# Altium schematic symbol library Supply Lines.SchLib: 23 symbols (part 1 of 2)
Pins are listed as number, name and electrical type; pins without a type are passive.

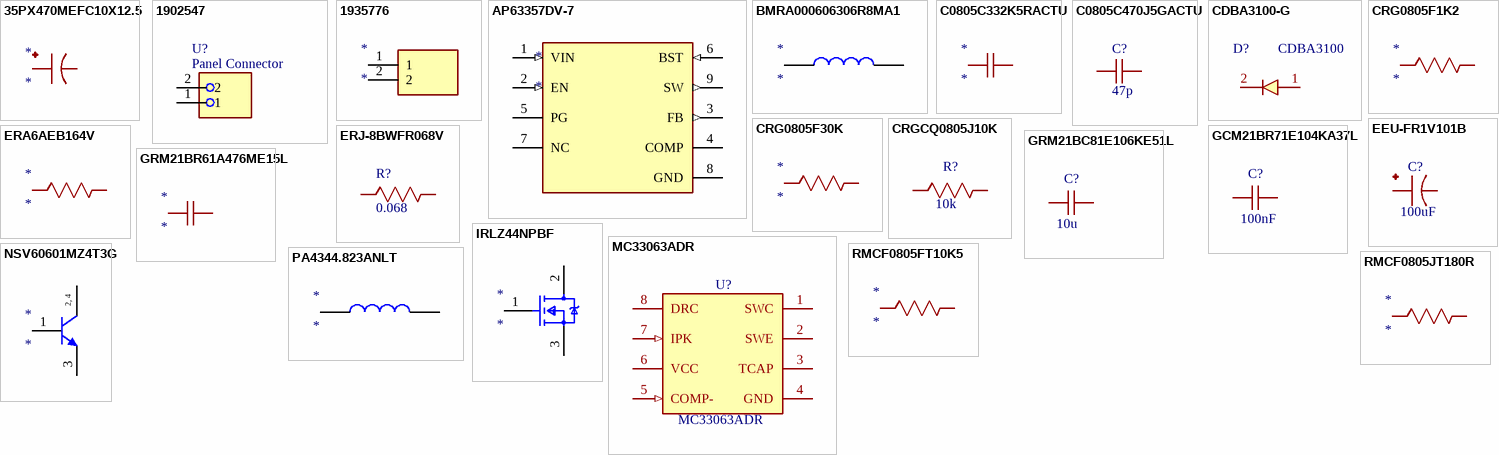
[diagram p0: symbols 35PX470MEFC10X12.5 to RMCF0805JT180R]

## 35PX470MEFC10X12.5
designator *
Aluminum Electrolytic Capacitor, Polarized, Aluminum (wet), 35V, 20% +Tol, 20% -Tol, 470uF; Manufacturer: Rubycon; Manufacturer Part Number: 35PX470MEFC10X12.5; Value: 470µF; Life (Hours): 2000hours; Polarity: Polar; Ripple Current: 525mA; Supplier: Mouser; Supplier Part Number: 232-35PX470MEFC10X12; RoHS: Compliant; Category: Aluminum Electrolytic Capacitors; Stock: 10207; Pricing: 1=0.46, 10=0.25, 50=0.25, 100=0.232, 1000=0.183, 10000=0.183 (USD); Case/Package: Radial; Diameter: 10mm; Height: 12.5mm; Height - Seated (Max): 13.9954mm; Lead Pitch: 5mm; Length: 12.5mm; Lifecycle Status: Production; Max Operating Temperature: 105°C; Min Operating Temperature: -55°C; Mounting Technology: Through Hole; Pins: 2; Number of Terminals: 2; Packaging: Bulk; REACH SVHC: Yes; Ripple Current (AC): 525mA; Schedule B: 8532220020, 8532220020|8532220020|8532220020|8532220020|8532220020; Terminal Pitch: 5mm; Tolerance: 20%; Voltage Rating: 35V; Voltage Rating (DC): 35V; ComponentLink1URL: https://datasheet.octopart.com:443/35PX470MEFC10X12.5-Rubycon-datasheet-159569471.pdf?src-supplier=IHS; ComponentLink1Description: https://datasheet.octopart.com:443/35PX470MEFC10X12.5-Rubycon-datasheet-159569471.pdf?src-supplier=IHS; ComponentLink2URL: https://datasheet.octopart.com:443/35PX470MEFC10X12.5-Rubycon-datasheet-86451557.pdf?src-supplier=Master+Electronics; ComponentLink2Description: https://datasheet.octopart.com:443/35PX470MEFC10X12.5-Rubycon-datasheet-86451557.pdf?src-supplier=Master+Electronics; ComponentLink3URL: https://datasheet.octopart.com:443/35PX470MEFC10X12.5-Rubycon-datasheet-41169268.pdf?src-supplier=Newark; ComponentLink3Description: https://datasheet.octopart.com:443/35PX470MEFC10X12.5-Rubycon-datasheet-41169268.pdf?src-supplier=Newark; ComponentLink4URL: https://datasheet.octopart.com:443/35PX470MEFC10X12.5-Rubycon-datasheet-12529491.pdf?src-supplier=element14+APAC; ComponentLink4Description: https://datasheet.octopart.com:443/35PX470MEFC10X12.5-Rubycon-datasheet-12529491.pdf?src-supplier=element14+APAC
footprint CAP_PKPZ_10X12P5_LOW_RUB
pins: 1, 2

## 1902547
designator U?, comment Panel Connector
Conn PC Terminal Block 2 POS 9.52mm Solder ST Thru-Hole 32A Cardboard; Manufacturer: Phoenix Contact; Manufacturer Part Number: 1902547; Approvals: CSA, UL; Current: 30A; Gender: Male; Number of Circuits: 2; Number of Levels: 1; Voltage: 600V; Voltage Rating: 800V; Wire/Cable Gauge: 10AWG; Wire Gauge (Max): 30AWG; Supplier: DigiKey; Supplier Part Number: 277-5951-ND; RoHS: Compliant; Category: Terminal Blocks; Stock: 2575; Pricing: 1=2.05, 10=1.543, 25=1.2168 (USD); China RoHS: Compliant; Color: Green; Contact Material: Tin; Current Rating: 32A; Depth: 21.5mm; Flammability Rating: UL94 V-0; Height: 21.5mm; Housing Color: Green; Housing Material: Polyamide; Lead Free: Lead Free; Length: 19.04mm; Lifecycle Status: Production; Material: Polyamide; Max Current Rating: 32A; Mounting Technology: Screw; Number of Contacts: 2; Pins: 2; Number of Poles: 2; Number of Positions: 2; Number of Positions Per Level: 2; Number of Rows: 1; Orientation: Straight; Pitch: 9.52mm; REACH SVHC: Yes; Termination: Screw; Weight: 6.719999g; Width: 16mm; Wire Gauge (Min): 10AWG; ComponentLink1URL: https://datasheet.octopart.com:443/1902547-Phoenix-Contact-datasheet-86450925.pdf?src-supplier=Farnell; ComponentLink1Description: https://datasheet.octopart.com:443/1902547-Phoenix-Contact-datasheet-86450925.pdf?src-supplier=Farnell; ComponentLink2URL: https://datasheet.octopart.com:443/MKDS-5-HV--2-9%2C52-Phoenix-Contact-datasheet-58098511.pdf?src-supplier=element14+APAC; ComponentLink2Description: https://datasheet.octopart.com:443/MKDS-5-HV--2-9%2C52-Phoenix-Contact-datasheet-58098511.pdf?src-supplier=element14+APAC; ComponentLink3URL: https://datasheet.octopart.com:443/1902547-Phoenix-Contact-datasheet-154783129.pdf?src-supplier=Electro+Sonic; ComponentLink3Description: https://datasheet.octopart.com:443/1902547-Phoenix-Contact-datasheet-154783129.pdf?src-supplier=Electro+Sonic; ComponentLink4URL: https://datasheet.octopart.com:443/1902547-Phoenix-Contact-datasheet-177362804.pdf?src-supplier=Burklin+Elektronik; ComponentLink4Description: https://datasheet.octopart.com:443/1902547-Phoenix-Contact-datasheet-177362804.pdf?src-supplier=Burklin+Elektronik; ComponentLink5URL: https://datasheet.octopart.com:443/1902547-Phoenix-Contact-datasheet-13545994.pdf?src-supplier=RS+(Formerly+Allied+Electronics); ComponentLink5Description: https://datasheet.octopart.com:443/1902547-Phoenix-Contact-datasheet-13545994.pdf?src-supplier=RS+(Formerly+Allied+Electronics); ComponentLink6URL: https://datasheet.octopart.com:443/1902547-Phoenix-Contact-datasheet-62122993.pdf?src-supplier=RS+(Formerly+Allied+Electronics); ComponentLink6Description: https://datasheet.octopart.com:443/1902547-Phoenix-Contact-datasheet-62122993.pdf?src-supplier=RS+(Formerly+Allied+Electronics); ComponentLink7URL: https://datasheet.octopart.com:443/1902547-Phoenix-Contact-datasheet-33514357.pdf?src-supplier=MRO+Stop; ComponentLink7Description: https://datasheet.octopart.com:443/1902547-Phoenix-Contact-datasheet-33514357.pdf?src-supplier=MRO+Stop; ComponentLink8URL: https://datasheet.octopart.com:443/1902547-Phoenix-Contact-datasheet-11802246.pdf?src-supplier=Arrow+Electronics; ComponentLink8Description: https://datasheet.octopart.com:443/1902547-Phoenix-Contact-datasheet-11802246.pdf?src-supplier=Arrow+Electronics
footprint PHOENIX_1902547
pins: 1, 2

## 1935776
designator *
Conn Terminal Block 2 POS 5mm Solder ST Thru-Hole 32ACardboard; Manufacturer: Phoenix Contact; Manufacturer Part Number: 1935776; Approvals: UL; Current: 20A; Current Rating: 32A; Max Supply Voltage: 250V; Number of Circuits: 2; Number of Levels: 1; Voltage: 300V; Wire/Cable Gauge: 10AWG; Wire Gauge (Max): 20AWG; Wire Gauge (Min): 12AWG; Supplier: Mouser; Supplier Part Number: 651-1935776; RoHS: Compliant; Category: Terminal Blocks; Stock: 3159; Pricing: 1=0.81, 10=0.593, 50=0.479, 100=0.47, 1000=0.47, 10000=0.47 (USD); China RoHS: Non-Compliant; Color: Green; Contact Material: Tin; Depth: 9mm; Height: 13.5mm; Housing Color: Green; Housing Material: Polyamide; Lead Free: Lead Free; Length: 9mm; Lifecycle Status: Production; Material: Nylon; Max Current Rating: 32A; Mounting Technology: Screw; Number of Contacts: 2; Pins: 2; Number of Poles: 2; Number of Positions: 2; Number of Positions Per Level: 2; Number of Rows: 1; Orientation: Straight; Packaging: Bulk; Pitch: 5mm; Radiation Hardening: No; REACH SVHC: No; Termination: Solder; Voltage Rating: 250V; Weight: 2.42g; Width: 17.6mm; ComponentLink1URL: https://datasheet.octopart.com:443/1935776-Phoenix-Contact-datasheet-154783799.pdf?src-supplier=Electro+Sonic; ComponentLink1Description: https://datasheet.octopart.com:443/1935776-Phoenix-Contact-datasheet-154783799.pdf?src-supplier=Electro+Sonic; ComponentLink2URL: https://datasheet.octopart.com:443/1935776-Phoenix-Contact-datasheet-33522892.pdf?src-supplier=MRO+Stop; ComponentLink2Description: https://datasheet.octopart.com:443/1935776-Phoenix-Contact-datasheet-33522892.pdf?src-supplier=MRO+Stop; ComponentLink3URL: https://datasheet.octopart.com:443/1935776-Phoenix-Contact-datasheet-140322698.pdf?src-supplier=Farnell; ComponentLink3Description: https://datasheet.octopart.com:443/1935776-Phoenix-Contact-datasheet-140322698.pdf?src-supplier=Farnell; ComponentLink4URL: https://datasheet.octopart.com:443/1935776-Phoenix-Contact-datasheet-9718601.pdf?src-supplier=RS+(Formerly+Allied+Electronics); ComponentLink4Description: https://datasheet.octopart.com:443/1935776-Phoenix-Contact-datasheet-9718601.pdf?src-supplier=RS+(Formerly+Allied+Electronics); ComponentLink5URL: https://datasheet.octopart.com:443/1935776-Phoenix-Contact-datasheet-62084812.pdf?src-supplier=RS+(Formerly+Allied+Electronics); ComponentLink5Description: https://datasheet.octopart.com:443/1935776-Phoenix-Contact-datasheet-62084812.pdf?src-supplier=RS+(Formerly+Allied+Electronics); ComponentLink6URL: https://datasheet.octopart.com:443/1935776-Phoenix-Contact-datasheet-164875068.pdf?src-supplier=Burklin+Elektronik; ComponentLink6Description: https://datasheet.octopart.com:443/1935776-Phoenix-Contact-datasheet-164875068.pdf?src-supplier=Burklin+Elektronik
footprint 1935776
pins: 1, 2

## AP63357DV-7
designator *
DC-DC Switching Synchronous Buck Regulator, Adjustable, 3.8V-32V in, 0.8-31V/3.5A out, V-DFN3020-13; Manufacturer: Diodes Inc.; Manufacturer Part Number: AP63357DV-7; Max Supply Voltage: 32V; Max Output current: 3.5A; Max Output Voltage: 31V; Max Switching Frequency: 450kHz; Min Input Voltage: 3.8V; Min Output Voltage: 800mV; Nominal Supply Voltage: 12V; Nominal Output Voltage: 5V; Number of Circuits: 1; Supplier: Mouser; Supplier Part Number: 621-AP63357DV-7; RoHS: Compliant; Category: Voltage Regulators - Switching; Stock: 32903; Pricing: 1=0.86, 10=0.612, 50=0.552, 100=0.485, 1000=0.41, 10000=0.403 (USD); China RoHS: Compliant; Country of Origin: Mainland China; Export Control Classification Number (ECCN) Code: EAR99; Height - Seated (Max): 850µm; Harmonized Tariff Schedule (HTS) Code: 8542.39.00.60; Introduction Date: 2019-08-19; Length: 3mm; Lifecycle Status: Production; Max Operating Temperature: 85°C; Min Operating Temperature: -40°C; Number of Terminals: 9; REACH SVHC: Yes; Terminal Pitch: 450µm; Topology: Buck; Width: 2mm; ComponentLink1URL: https://datasheet.octopart.com:443/AP63357DV-7-Diodes-Inc.-datasheet-145012321.pdf?src-supplier=IHS; ComponentLink1Description: https://datasheet.octopart.com:443/AP63357DV-7-Diodes-Inc.-datasheet-145012321.pdf?src-supplier=IHS; ComponentLink2URL: https://sigma.octopart.com:443/151209837/technical_drawing/Diodes-Inc.-AP63357DV-7.pdf?src-supplier=Diodes+Inc+SCT; ComponentLink2Description: https://sigma.octopart.com:443/151209837/technical_drawing/Diodes-Inc.-AP63357DV-7.pdf?src-supplier=Diodes+Inc+SCT
footprint CONV_AP63357DV-7
pins: 1 VIN (in), 2 EN (in), 3 FB (out), 4 COMP, 5 PG, 6 BST (in), 7 NC, 8 GND (power), 9 SW (out)

## BMRA000606306R8MA1
designator *
Inductor Power Molded/Shielded Wirewound 6.8uH 20% 100kHz 4.5A SMD T/R; Manufacturer: Pulse Electronics; Manufacturer Part Number: BMRA000606306R8MA1; Core Material: Composite; DC Resistance (DCR): 60mΩ; Value: 6.8µH; Number of Circuits: 1; Supplier: Mouser; Supplier Part Number: 603-BMRA0606306R8MA1; RoHS: Compliant; Category: Fixed Inductors; Stock: 20018; Pricing: 1=0.39, 10=0.318, 50=0.318, 100=0.262, 1000=0.211, 10000=0.187 (USD); Country of Origin: Mainland China, Taiwan; Export Control Classification Number (ECCN) Code: EAR99; Height: 3mm; Harmonized Tariff Schedule (HTS) Code: 8504.50.80.00; Introduction Date: 2021-03-29; Lifecycle Status: Production; Max Current Rating: 4.5A; Max Operating Temperature: 125°C; Min Operating Temperature: -55°C; Number of Terminals: 2; REACH SVHC: Yes; Shielding: Shielded; Test Frequency: 100kHz; Tolerance: 20%; Width: 6.6mm; ComponentLink1URL: https://datasheet.octopart.com:443/BMRA000606306R8MA1-Pulse-datasheet-180094538.pdf?src-supplier=IHS; ComponentLink1Description: https://datasheet.octopart.com:443/BMRA000606306R8MA1-Pulse-datasheet-180094538.pdf?src-supplier=IHS; ComponentLink2URL: https://datasheet.octopart.com:443/BMRA000606306R8MA1-Pulse-datasheet-155427411.pdf?src-supplier=IHS; ComponentLink2Description: https://datasheet.octopart.com:443/BMRA000606306R8MA1-Pulse-datasheet-155427411.pdf?src-supplier=IHS
footprint INDPM7366X300N
pins: 1, 2

## C0805C332K5RACTU
designator *
SMD Multilayer Ceramic Capacitor, 3300 pF, 50 V, 0805 [2012 Metric], X7R; Manufacturer: KEMET; Manufacturer Part Number: C0805C332K5RACTU; Value: 3.3nF; Dissipation Factor: 2.5%; Temperature Coefficient: 30ppm/°C; Tolerance: 10%; Voltage: 50V; Supplier: Mouser; Supplier Part Number: 80-C0805C332K5R; RoHS: Compliant; Category: Ceramic Capacitors; Stock: 23962; Pricing: 1=0.1, 10=0.03, 50=0.03, 100=0.026, 500=0.019, 1000=0.017, 4000=0.009, 8000=0.008, 10000=0.008 (USD); Case/Package: 0805; Case Code (Imperial): 0805; China RoHS: Compliant; Contact Plating: Tin; Country of Origin: Mexico; Depth: 1.25mm; Dielectric: X7R; Dielectric Material: Ceramic; Export Control Classification Number (ECCN) Code: EAR99; Height: 780µm; Harmonized Tariff Schedule (HTS) Code: 8532.24.00.20; Introduction Date: 2008-01-10; Lead Free: Lead Free; Lead Pitch: 750µm; Length: 2mm; Lifecycle Status: Production; Material: Ceramic; Max Operating Temperature: 125°C; Min Operating Temperature: -55°C; Mounting Technology: Surface Mount; Pins: 2; Number of Terminals: 2; Packaging: Cut Tape; Radiation Hardening: No; REACH SVHC: Yes; Schedule B: 8532240020, 8532240020|8532240020, 8532240020|8532240020|8532240020, 8532240020|8532240020|8532240020|8532240020; Termination: SMD/SMT; Thickness: 889µm; Voltage Rating: 50V; Voltage Rating (AC): 50V; Voltage Rating (DC): 50V; Width: 1.25mm; ComponentLink1URL: https://datasheet.octopart.com:443/C0805C332K5RACTU-KEMET-datasheet-178445679.pdf?src-supplier=IHS; ComponentLink1Description: https://datasheet.octopart.com:443/C0805C332K5RACTU-KEMET-datasheet-178445679.pdf?src-supplier=IHS; ComponentLink2URL: https://datasheet.octopart.com:443/C0805C332K5RAC7800-KEMET-datasheet-182042190.pdf?src-supplier=IHS; ComponentLink2Description: https://datasheet.octopart.com:443/C0805C332K5RAC7800-KEMET-datasheet-182042190.pdf?src-supplier=IHS; ComponentLink3URL: https://datasheet.octopart.com:443/C0805C332K5RACTU-KEMET-datasheet-137357759.pdf?src-supplier=Farnell; ComponentLink3Description: https://datasheet.octopart.com:443/C0805C332K5RACTU-KEMET-datasheet-137357759.pdf?src-supplier=Farnell; ComponentLink4URL: https://datasheet.octopart.com:443/C0805C332K5RACTU-Kemet-datasheet-12608295.pdf?src-supplier=Farnell; ComponentLink4Description: https://datasheet.octopart.com:443/C0805C332K5RACTU-Kemet-datasheet-12608295.pdf?src-supplier=Farnell; ComponentLink5URL: https://datasheet.octopart.com:443/C0805C332K5RACTU-Kemet-datasheet-11992184.pdf?src-supplier=Farnell; ComponentLink5Description: https://datasheet.octopart.com:443/C0805C332K5RACTU-Kemet-datasheet-11992184.pdf?src-supplier=Farnell; ComponentLink6URL: https://datasheet.octopart.com:443/C0805C332K5RACTU-Kemet-datasheet-10942409.pdf?src-supplier=Farnell; ComponentLink6Description: https://datasheet.octopart.com:443/C0805C332K5RACTU-Kemet-datasheet-10942409.pdf?src-supplier=Farnell; ComponentLink7URL: https://datasheet.octopart.com:443/C0805C332K5RACTU-Kemet-datasheet-10404442.pdf?src-supplier=Farnell; ComponentLink7Description: https://datasheet.octopart.com:443/C0805C332K5RACTU-Kemet-datasheet-10404442.pdf?src-supplier=Farnell; ComponentLink8URL: https://datasheet.octopart.com:443/C0805C332K5RACTU-KEMET-datasheet-101576272.pdf?src-supplier=Farnell; ComponentLink8Description: https://datasheet.octopart.com:443/C0805C332K5RACTU-KEMET-datasheet-101576272.pdf?src-supplier=Farnell; ComponentLink9URL: https://datasheet.octopart.com:443/C0805C332K5RACTU-KEMET-datasheet-176142338.pdf?src-supplier=Farnell; ComponentLink9Description: https://datasheet.octopart.com:443/C0805C332K5RACTU-KEMET-datasheet-176142338.pdf?src-supplier=Farnell; ComponentLink10URL: https://datasheet.octopart.com:443/C0805C332K5RACTU-Kemet-datasheet-500041.pdf?src-supplier=Farnell; ComponentLink10Description: https://datasheet.octopart.com:443/C0805C332K5RACTU-Kemet-datasheet-500041.pdf?src-supplier=Farnell; ComponentLink11URL: https://datasheet.octopart.com:443/C0805C332K5RACTU-Kemet-datasheet-10026209.pdf?src-supplier=Farnell; ComponentLink11Description: https://datasheet.octopart.com:443/C0805C332K5RACTU-Kemet-datasheet-10026209.pdf?src-supplier=Farnell; ComponentLink12URL: https://datasheet.octopart.com:443/C0805C332K5RACTU-KEMET-datasheet-68331921.pdf?src-supplier=Upverter; ComponentLink12Description: https://datasheet.octopart.com:443/C0805C332K5RACTU-KEMET-datasheet-68331921.pdf?src-supplier=Upverter; ComponentLink13URL: https://datasheet.octopart.com:443/C0805C332K5RACTU-KEMET-datasheet-159486434.pdf?src-supplier=Newark; ComponentLink13Description: https://datasheet.octopart.com:443/C0805C332K5RACTU-KEMET-datasheet-159486434.pdf?src-supplier=Newark; ComponentLink14URL: https://datasheet.octopart.com:443/C0805C332K5RACTU-Kemet-datasheet-5313890.pdf?src-supplier=Newark; ComponentLink14Description: https://datasheet.octopart.com:443/C0805C332K5RACTU-Kemet-datasheet-5313890.pdf?src-supplier=Newark; ComponentLink15URL: https://datasheet.octopart.com:443/C0805C332K5RACTU-KEMET-datasheet-176142341.pdf?src-supplier=Newark; ComponentLink15Description: https://datasheet.octopart.com:443/C0805C332K5RACTU-KEMET-datasheet-176142341.pdf?src-supplier=Newark; ComponentLink16URL: https://datasheet.octopart.com:443/C0805C332K5RACTU-KEMET-datasheet-130256537.pdf?src-supplier=Newark; ComponentLink16Description: https://datasheet.octopart.com:443/C0805C332K5RACTU-KEMET-datasheet-130256537.pdf?src-supplier=Newark; ComponentLink17URL: https://datasheet.octopart.com:443/C0805C332K5RACTU-Kemet-datasheet-8764837.pdf?src-supplier=Newark; ComponentLink17Description: https://datasheet.octopart.com:443/C0805C332K5RACTU-Kemet-datasheet-8764837.pdf?src-supplier=Newark; ComponentLink18URL: https://datasheet.octopart.com:443/C0805C332K5RACTU-Kemet-datasheet-8480123.pdf?src-supplier=Newark; ComponentLink18Description: https://datasheet.octopart.com:443/C0805C332K5RACTU-Kemet-datasheet-8480123.pdf?src-supplier=Newark; ComponentLink19URL: https://datasheet.octopart.com:443/C0805C332K5RACTU-Kemet-datasheet-5390537.pdf?src-supplier=Newark; ComponentLink19Description: https://datasheet.octopart.com:443/C0805C332K5RACTU-Kemet-datasheet-5390537.pdf?src-supplier=Newark; ComponentLink20URL: https://datasheet.octopart.com:443/C0805C332K5RACTU-Kemet-datasheet-5393970.pdf?src-supplier=Newark; ComponentLink20Description: https://datasheet.octopart.com:443/C0805C332K5RACTU-Kemet-datasheet-5393970.pdf?src-supplier=Newark; ComponentLink21URL: https://datasheet.octopart.com:443/C0805C332K5RACTU-Kemet-datasheet-8502025.pdf?src-supplier=Newark; ComponentLink21Description: https://datasheet.octopart.com:443/C0805C332K5RACTU-Kemet-datasheet-8502025.pdf?src-supplier=Newark; ComponentLink22URL: https://datasheet.octopart.com:443/C0805C332K5RACTU-Kemet-datasheet-7541751.pdf?src-supplier=Newark; ComponentLink22Description: https://datasheet.octopart.com:443/C0805C332K5RACTU-Kemet-datasheet-7541751.pdf?src-supplier=Newark; ComponentLink23URL: https://datasheet.octopart.com:443/C0805C332K5RACTU-Kemet-datasheet-161801.pdf?src-supplier=Newark; ComponentLink23Description: https://datasheet.octopart.com:443/C0805C332K5RACTU-Kemet-datasheet-161801.pdf?src-supplier=Newark; ComponentLink24URL: https://datasheet.octopart.com:443/C0805C332K5RACTU-KEMET-datasheet-37550250.pdf?src-supplier=Electro+Sonic; ComponentLink24Description: https://datasheet.octopart.com:443/C0805C332K5RACTU-KEMET-datasheet-37550250.pdf?src-supplier=Electro+Sonic; ComponentLink25URL: https://datasheet.octopart.com:443/C0805C332K5RACTU-KEMET-datasheet-164512540.pdf?src-supplier=TME; ComponentLink25Description: https://datasheet.octopart.com:443/C0805C332K5RACTU-KEMET-datasheet-164512540.pdf?src-supplier=TME; ComponentLink26URL: https://datasheet.octopart.com:443/C0805C332K5RACTU-Kemet-datasheet-68096424.pdf?src-supplier=TME; ComponentLink26Description: https://datasheet.octopart.com:443/C0805C332K5RACTU-Kemet-datasheet-68096424.pdf?src-supplier=TME; ComponentLink27URL: https://datasheet.octopart.com:443/C0805C332K5RACTU-KEMET-datasheet-68331906.pdf?src-supplier=TME; ComponentLink27Description: https://datasheet.octopart.com:443/C0805C332K5RACTU-KEMET-datasheet-68331906.pdf?src-supplier=TME; ComponentLink28URL: https://datasheet.octopart.com:443/C0805C332K5RACTU-KEMET-datasheet-110724412.pdf?src-supplier=RS+(Formerly+Allied+Electronics); ComponentLink28Description: https://datasheet.octopart.com:443/C0805C332K5RACTU-KEMET-datasheet-110724412.pdf?src-supplier=RS+(Formerly+Allied+Electronics); ComponentLink29URL: https://datasheet.octopart.com:443/C0805C332K5RACTU-Kemet-datasheet-464.pdf?src-supplier=RS+(Formerly+Allied+Electronics); ComponentLink29Description: https://datasheet.octopart.com:443/C0805C332K5RACTU-Kemet-datasheet-464.pdf?src-supplier=RS+(Formerly+Allied+Electronics); ComponentLink30URL: https://datasheet.octopart.com/C0805C332K5RACTU-KEMET-datasheet-84169754.pdf; ComponentLink30Description: https://datasheet.octopart.com/C0805C332K5RACTU-KEMET-datasheet-84169754.pdf; ComponentLink31URL: https://datasheet.octopart.com:443/C0805C332K5RACTU-Kemet-datasheet-22084244.pdf?src-supplier=element14+APAC; ComponentLink31Description: https://datasheet.octopart.com:443/C0805C332K5RACTU-Kemet-datasheet-22084244.pdf?src-supplier=element14+APAC; ComponentLink32URL: https://datasheet.octopart.com:443/C0805C332K5RAC7800-KEMET-datasheet-164857143.pdf?src-supplier=Burklin+Elektronik; ComponentLink32Description: https://datasheet.octopart.com:443/C0805C332K5RAC7800-KEMET-datasheet-164857143.pdf?src-supplier=Burklin+Elektronik; ComponentLink33URL: https://datasheet.octopart.com:443/C0805C332K5RAC-TU-Kemet-datasheet-8196850.pdf?src-supplier=Jameco; ComponentLink33Description: https://datasheet.octopart.com:443/C0805C332K5RAC-TU-Kemet-datasheet-8196850.pdf?src-supplier=Jameco
footprint (KEMET 0805) FP-C0805C-DN-IPC_A - duplicate
pins: 1, 2

## C0805C470J5GACTU
designator C?, comment 47p
50V 47pF C0G ±5% 0805 Multilayer Ceramic Capacitors MLCC - SMD/SMT ROHS; Manufacturer: KEMET; Manufacturer Part Number: C0805C470J5GACTU; Dissipation Factor: 0.1%; Temperature Coefficient: 30ppm/°C; Supplier: DigiKey; Supplier Part Number: 399-C0805C470J5GACTUCT-ND; RoHS: Compliant; Category: Ceramic Capacitors; Stock: 124597; Pricing: 1=0.1, 10=0.049, 50=0.0334, 100=0.0287, 500=0.02092, 1000=0.01854 (USD); Value: 47pF; Case/Package: 0805; Case Code (Imperial): 0805; China RoHS: Compliant; Contact Material: Tin; Depth: 1.25mm; Dielectric Material: Ceramic; Height: 780µm; Lead Free: Lead Free; Lead Pitch: 750µm; Length: 2mm; Lifecycle Status: Production; Material: Ceramic; Max Operating Temperature: 125°C; Min Operating Temperature: -55°C; Mounting Technology: Surface Mount; Pins: 2; Number of Terminals: 2; Packaging: Cut Tape; Radiation Hardening: No; REACH SVHC: Yes; Schedule B: 8532240020, 8532240020|8532240020|8532240020|8532240020|8532240020, 8532240020|8532240020|8532240020|8532240020|8532240020|8532240020|8532240020|8532240020|8532240020, 8532240020|8532240020|8532240020|8532240020|8532240020|8532240020|8532240020|8532240020|8532240020|8532240020; Termination: SMD/SMT; Thickness: 889µm; Tolerance: 5%; Voltage: 50V; Voltage Rating: 50V; Voltage Rating (DC): 50V; Width: 1.25mm; ComponentLink1URL: https://datasheet.octopart.com:443/C0805C470J5GACTU-KEMET-datasheet-178132257.pdf?src-supplier=IHS; ComponentLink1Description: https://datasheet.octopart.com:443/C0805C470J5GACTU-KEMET-datasheet-178132257.pdf?src-supplier=IHS; ComponentLink2URL: https://datasheet.octopart.com:443/C0805C470J5GAC7800-KEMET-datasheet-182042351.pdf?src-supplier=IHS; ComponentLink2Description: https://datasheet.octopart.com:443/C0805C470J5GAC7800-KEMET-datasheet-182042351.pdf?src-supplier=IHS; ComponentLink3URL: https://datasheet.octopart.com:443/C0805C470J5GACTU-KEMET-datasheet-68331921.pdf?src-supplier=Upverter; ComponentLink3Description: https://datasheet.octopart.com:443/C0805C470J5GACTU-KEMET-datasheet-68331921.pdf?src-supplier=Upverter; ComponentLink4URL: https://datasheet.octopart.com:443/C0805C470J5GACTU-Kemet-datasheet-5314449.pdf?src-supplier=Newark; ComponentLink4Description: https://datasheet.octopart.com:443/C0805C470J5GACTU-Kemet-datasheet-5314449.pdf?src-supplier=Newark; ComponentLink5URL: https://datasheet.octopart.com:443/C0805C470J5GACTU-Kemet-datasheet-10282724.pdf?src-supplier=Newark; ComponentLink5Description: https://datasheet.octopart.com:443/C0805C470J5GACTU-Kemet-datasheet-10282724.pdf?src-supplier=Newark; ComponentLink6URL: https://datasheet.octopart.com:443/C0805C470J5GACTU-KEMET-datasheet-170667471.pdf?src-supplier=Newark; ComponentLink6Description: https://datasheet.octopart.com:443/C0805C470J5GACTU-KEMET-datasheet-170667471.pdf?src-supplier=Newark; ComponentLink7URL: https://datasheet.octopart.com:443/C0805C470J5GACTU-KEMET-datasheet-149524325.pdf?src-supplier=Farnell; ComponentLink7Description: https://datasheet.octopart.com:443/C0805C470J5GACTU-KEMET-datasheet-149524325.pdf?src-supplier=Farnell; ComponentLink8URL: https://datasheet.octopart.com:443/C0805C470J5GACTU-KEMET-datasheet-101576292.pdf?src-supplier=Farnell; ComponentLink8Description: https://datasheet.octopart.com:443/C0805C470J5GACTU-KEMET-datasheet-101576292.pdf?src-supplier=Farnell; ComponentLink9URL: https://datasheet.octopart.com:443/C0805C470J5GACTU-Kemet-datasheet-10540709.pdf?src-supplier=Farnell; ComponentLink9Description: https://datasheet.octopart.com:443/C0805C470J5GACTU-Kemet-datasheet-10540709.pdf?src-supplier=Farnell; ComponentLink10URL: https://datasheet.octopart.com:443/C0805C470J5GACTU-KEMET-datasheet-178088151.pdf?src-supplier=element14+APAC; ComponentLink10Description: https://datasheet.octopart.com:443/C0805C470J5GACTU-KEMET-datasheet-178088151.pdf?src-supplier=element14+APAC; ComponentLink11URL: https://datasheet.octopart.com:443/C0805C470J5GACTU-KEMET-datasheet-178088150.pdf?src-supplier=element14+APAC; ComponentLink11Description: https://datasheet.octopart.com:443/C0805C470J5GACTU-KEMET-datasheet-178088150.pdf?src-supplier=element14+APAC; ComponentLink12URL: https://datasheet.octopart.com:443/C0805C470J5GACTU-Kemet-datasheet-22084244.pdf?src-supplier=element14+APAC; ComponentLink12Description: https://datasheet.octopart.com:443/C0805C470J5GACTU-Kemet-datasheet-22084244.pdf?src-supplier=element14+APAC; ComponentLink13URL: https://datasheet.octopart.com:443/C0805C470J5GACTU-Kemet-datasheet-48876295.pdf?src-supplier=element14+APAC; ComponentLink13Description: https://datasheet.octopart.com:443/C0805C470J5GACTU-Kemet-datasheet-48876295.pdf?src-supplier=element14+APAC; ComponentLink14URL: https://datasheet.octopart.com:443/C0805C470J5GACTU-KEMET-datasheet-37178240.pdf?src-supplier=Electro+Sonic; ComponentLink14Description: https://datasheet.octopart.com:443/C0805C470J5GACTU-KEMET-datasheet-37178240.pdf?src-supplier=Electro+Sonic; ComponentLink15URL: https://datasheet.octopart.com:443/C0805C470J5GACTU-Kemet-datasheet-68096432.pdf?src-supplier=TME; ComponentLink15Description: https://datasheet.octopart.com:443/C0805C470J5GACTU-Kemet-datasheet-68096432.pdf?src-supplier=TME; ComponentLink16URL: https://datasheet.octopart.com/C0805C470J5GACTU-KEMET-datasheet-84169754.pdf; ComponentLink16Description: https://datasheet.octopart.com/C0805C470J5GACTU-KEMET-datasheet-84169754.pdf; ComponentLink17URL: https://datasheet.octopart.com:443/C0805C470J5GACTU-Kemet-datasheet-11967729.pdf?src-supplier=Arrow+Electronics; ComponentLink17Description: https://datasheet.octopart.com:443/C0805C470J5GACTU-Kemet-datasheet-11967729.pdf?src-supplier=Arrow+Electronics; ComponentLink18URL: https://datasheet.octopart.com:443/C0805C470J5GAC7800-KEMET-datasheet-164857143.pdf?src-supplier=Burklin+Elektronik; ComponentLink18Description: https://datasheet.octopart.com:443/C0805C470J5GAC7800-KEMET-datasheet-164857143.pdf?src-supplier=Burklin+Elektronik; ComponentLink19URL: https://datasheet.octopart.com:443/C0805C470J5GAC-TU-Kemet-datasheet-7589841.pdf?src-supplier=Jameco; ComponentLink19Description: https://datasheet.octopart.com:443/C0805C470J5GAC-TU-Kemet-datasheet-7589841.pdf?src-supplier=Jameco; ComponentLink20URL: https://datasheet.octopart.com:443/C0805C470J5GACTU-Kemet-datasheet-464.pdf?src-supplier=RS+(Formerly+Allied+Electronics); ComponentLink20Description: https://datasheet.octopart.com:443/C0805C470J5GACTU-Kemet-datasheet-464.pdf?src-supplier=RS+(Formerly+Allied+Electronics)
footprint (KEMET 0805) FP-C0805C-DN-IPC_A - duplicate
pins: 1, 2

## CDBA3100-G
designator D?, comment CDBA3100
Rectifier Diode, Schottky, 1 Phase, 1 Element, 3A, 100V V(RRM), Silicon, DO-214AC; Manufacturer: Comchip; Manufacturer Part Number: CDBA3100-G; Forward Voltage: 850mV; Max Forward Surge Current (Ifsm): 80A; Max Reverse Leakage Current: 500µA; Number of Elements: 1; Supplier: DigiKey; Supplier Part Number: 641-1099-1-ND; RoHS: Compliant; Category: Rectifier Diodes; Stock: 37850; Pricing: 1=0.32, 10=0.284, 100=0.2475, 500=0.24302, 2000=0.22072 (USD); Average Rectified Current: 3A; Contact Plating: Tin; Lifecycle Status: Obsolete; Max Operating Temperature: 150°C; Max Output current: 3A; Max Reverse Voltage (DC): 100V; Max Surge Current: 80A; Min Operating Temperature: -55°C; Mounting Technology: Surface Mount; Number of Terminals: 2; Peak Reverse Current: 500µA; REACH SVHC: No; Reverse Standoff Voltage: 100V; Schedule B: 8541100070, 8541100070|8541100070, 8541100070|8541100070|8541100070, 8541100070|8541100070|8541100070|8541100070; ComponentLink1URL: https://datasheet.octopart.com:443/CDBA3100-G-Comchip-datasheet-180126795.pdf?src-supplier=IHS; ComponentLink1Description: https://datasheet.octopart.com:443/CDBA3100-G-Comchip-datasheet-180126795.pdf?src-supplier=IHS; ComponentLink2URL: https://datasheet.octopart.com:443/CDBA3100-G-Comchip-datasheet-14434128.pdf?src-supplier=RS+(Formerly+Allied+Electronics); ComponentLink2Description: https://datasheet.octopart.com:443/CDBA3100-G-Comchip-datasheet-14434128.pdf?src-supplier=RS+(Formerly+Allied+Electronics)
footprint CDBA3100
pins: 1, 2

## CRG0805F1K2
designator *
Fixed Resistor, Thick Film, 0.125W, 1200ohm, 150V, 1% +/-Tol, 100ppm/Cel, Surface Mount, 0805; Manufacturer: TE Connectivity; Manufacturer Part Number: CRG0805F1K2; Manufacturer Lifecycle Status: ACTIVE; Max Power Dissipation: 125mW; Number of Resistors: 1; Value: 1.2kΩ; Temperature Coefficient: 100ppm/°C; Supplier: Mouser; Supplier Part Number: 279-CRG0805F1K2; RoHS: Compliant; Category: Chip SMD Resistors; Stock: 124570; Pricing: 1=0.1, 10=0.022, 50=0.022, 100=0.018, 1000=0.011, 10000=0.006 (USD); Case/Package: 0805; Case Code (Imperial): 0805; Case Code (Metric): 2012; China RoHS: Non-Compliant; Composition: Thick Film; Depth: 1.25mm; Export Control Classification Number (ECCN) Code: EAR99; ELV: Compliant; Height: 550µm; Harmonized Tariff Schedule (HTS) Code: 8533.21.00.30; Introduction Date: 2003-09-18; Length: 2mm; Lifecycle Status: Production; Max Operating Temperature: 125°C; Military Standard: Not; Min Operating Temperature: -55°C; Mounting Technology: Surface Mount; Number of Terminals: 2; Number of Terminations: 2; Operating Supply Voltage: 150V; Packaging: Tape & Reel (TR); Power Dissipation: 125mW; Power Rating: 125mW; Radiation Hardening: No; REACH SVHC: Yes; Termination: Solder; Tolerance: 1%; Voltage Rating: 150V; Width: 1.25mm; Working Voltage: 150V; ComponentLink1URL: https://datasheet.octopart.com:443/CRG0805F1K2-TE-Connectivity-datasheet-167977698.pdf?src-supplier=IHS; ComponentLink1Description: https://datasheet.octopart.com:443/CRG0805F1K2-TE-Connectivity-datasheet-167977698.pdf?src-supplier=IHS; ComponentLink2URL: https://datasheet.octopart.com:443/CRG0805F1K2-TE-Connectivity-datasheet-182172479.pdf?src-supplier=IHS; ComponentLink2Description: https://datasheet.octopart.com:443/CRG0805F1K2-TE-Connectivity-datasheet-182172479.pdf?src-supplier=IHS; ComponentLink3URL: https://datasheet.octopart.com:443/CRG0805F1K2-TE-Connectivity-datasheet-11120284.pdf?src-supplier=Farnell; ComponentLink3Description: https://datasheet.octopart.com:443/CRG0805F1K2-TE-Connectivity-datasheet-11120284.pdf?src-supplier=Farnell; ComponentLink4URL: https://datasheet.octopart.com:443/CRG0805F1K2-TE-Connectivity-datasheet-44624597.pdf?src-supplier=Farnell; ComponentLink4Description: https://datasheet.octopart.com:443/CRG0805F1K2-TE-Connectivity-datasheet-44624597.pdf?src-supplier=Farnell; ComponentLink5URL: https://datasheet.octopart.com:443/CRG0805F1K2-TE-Connectivity-datasheet-128558484.pdf?src-supplier=Master+Electronics; ComponentLink5Description: https://datasheet.octopart.com:443/CRG0805F1K2-TE-Connectivity-datasheet-128558484.pdf?src-supplier=Master+Electronics; ComponentLink6URL: https://datasheet.octopart.com:443/1623133-1-TE-Connectivity---AMP-datasheet-189108518.pdf?src-supplier=Master+Electronics; ComponentLink6Description: https://datasheet.octopart.com:443/1623133-1-TE-Connectivity---AMP-datasheet-189108518.pdf?src-supplier=Master+Electronics; ComponentLink7URL: https://datasheet.octopart.com:443/CRG0805F1K2-Tyco-Electronics-datasheet-11120141.pdf?src-supplier=Electro+Sonic; ComponentLink7Description: https://datasheet.octopart.com:443/CRG0805F1K2-Tyco-Electronics-datasheet-11120141.pdf?src-supplier=Electro+Sonic; ComponentLink8URL: https://sigma.octopart.com:443/14530244/technical_drawing/TE-Connectivity-CRG0805F1K2.pdf?src-supplier=Sager+Electronics; ComponentLink8Description: https://sigma.octopart.com:443/14530244/technical_drawing/TE-Connectivity-CRG0805F1K2.pdf?src-supplier=Sager+Electronics; ComponentLink9URL: https://datasheet.octopart.com:443/CRG0805F1K2-TE-Connectivity-datasheet-137111056.pdf?src-supplier=X-ON; ComponentLink9Description: https://datasheet.octopart.com:443/CRG0805F1K2-TE-Connectivity-datasheet-137111056.pdf?src-supplier=X-ON; ComponentLink10URL: https://datasheet.octopart.com:443/CRG0805F1K2-TE-Connectivity-datasheet-111046813.pdf?src-supplier=RS+(Formerly+Allied+Electronics); ComponentLink10Description: https://datasheet.octopart.com:443/CRG0805F1K2-TE-Connectivity-datasheet-111046813.pdf?src-supplier=RS+(Formerly+Allied+Electronics); ComponentLink11URL: https://datasheet.octopart.com:443/CRG0805F1K2-TE-Connectivity-datasheet-20739855.pdf?src-supplier=RS+(Formerly+Allied+Electronics); ComponentLink11Description: https://datasheet.octopart.com:443/CRG0805F1K2-TE-Connectivity-datasheet-20739855.pdf?src-supplier=RS+(Formerly+Allied+Electronics); ComponentLink12URL: https://datasheet.octopart.com:443/CRG0805F1K2-Tyco-Electronics-datasheet-9755276.pdf?src-supplier=RS+(Formerly+Allied+Electronics); ComponentLink12Description: https://datasheet.octopart.com:443/CRG0805F1K2-Tyco-Electronics-datasheet-9755276.pdf?src-supplier=RS+(Formerly+Allied+Electronics); ComponentLink13URL: http://sigma.octopart.com:80/14530243/rohs_certificate/TE-Connectivity-CRG0805F1K2.pdf?src-supplier=Compliance+Statements; ComponentLink13Description: http://sigma.octopart.com:80/14530243/rohs_certificate/TE-Connectivity-CRG0805F1K2.pdf?src-supplier=Compliance+Statements; ComponentLink14URL: http://sigma.octopart.com:80/62063384/materials_sheet/TE-Connectivity-CRG0805F1K2.pdf?src-supplier=Compliance+Statements; ComponentLink14Description: http://sigma.octopart.com:80/62063384/materials_sheet/TE-Connectivity-CRG0805F1K2.pdf?src-supplier=Compliance+Statements
footprint FP-CRGCQ0805-IPC_A
pins: 1, 2

## CRG0805F30K
designator *
Res Thick Film 0805 30K Ohm 1% 0.125W(1/8W) ±100ppm/C Pad SMD T/R; Manufacturer: TE Connectivity; Manufacturer Part Number: CRG0805F30K; Manufacturer Lifecycle Status: ACTIVE; Max Power Dissipation: 125mW; Number of Resistors: 1; Operating Supply Voltage: 150V; Value: 30kΩ; Temperature Coefficient: 100ppm/°C; Supplier: Mouser; Supplier Part Number: 279-CRG0805F30K; RoHS: Compliant; Category: Chip SMD Resistors; Stock: 24302; Pricing: 1=0.1, 10=0.023, 50=0.023, 100=0.019, 1000=0.011, 10000=0.006 (USD); Case/Package: 0805; Case Code (Imperial): 0805; Case Code (Metric): 2012; China RoHS: Non-Compliant; Composition: Thick Film; Depth: 1.25mm; Export Control Classification Number (ECCN) Code: EAR99; ELV: Compliant; Height: 550µm; Harmonized Tariff Schedule (HTS) Code: 8533.21.00.30; Introduction Date: 2009-09-24; Length: 2mm; Lifecycle Status: Production; Max Operating Temperature: 155°C; Military Standard: Not; Min Operating Temperature: -55°C; Mounting Technology: Surface Mount; Number of Terminals: 2; Number of Terminations: 2; Packaging: Tape & Reel (TR); Power Dissipation: 125mW; Power Rating: 125mW; Radiation Hardening: No; REACH SVHC: Yes; Termination: Solder; Tolerance: 1%; Voltage Rating: 150V; Weight: 5.499807mg; Width: 1.25mm; Working Voltage: 150V; ComponentLink1URL: https://datasheet.octopart.com:443/CRG0805F30K-TE-Connectivity-datasheet-167977698.pdf?src-supplier=Future+Electronics; ComponentLink1Description: https://datasheet.octopart.com:443/CRG0805F30K-TE-Connectivity-datasheet-167977698.pdf?src-supplier=Future+Electronics; ComponentLink2URL: https://datasheet.octopart.com:443/CRG0805F30K-TE-Connectivity-datasheet-44624597.pdf?src-supplier=Farnell; ComponentLink2Description: https://datasheet.octopart.com:443/CRG0805F30K-TE-Connectivity-datasheet-44624597.pdf?src-supplier=Farnell; ComponentLink3URL: https://datasheet.octopart.com:443/CRG0805F30K-TE-Connectivity-datasheet-11120284.pdf?src-supplier=Farnell; ComponentLink3Description: https://datasheet.octopart.com:443/CRG0805F30K-TE-Connectivity-datasheet-11120284.pdf?src-supplier=Farnell; ComponentLink4URL: https://datasheet.octopart.com:443/CRG0805F30K-TE-Connectivity-datasheet-128558484.pdf?src-supplier=Master+Electronics; ComponentLink4Description: https://datasheet.octopart.com:443/CRG0805F30K-TE-Connectivity-datasheet-128558484.pdf?src-supplier=Master+Electronics; ComponentLink5URL: https://datasheet.octopart.com:443/1623191-1-TE-Connectivity---AMP-datasheet-189108518.pdf?src-supplier=Master+Electronics; ComponentLink5Description: https://datasheet.octopart.com:443/1623191-1-TE-Connectivity---AMP-datasheet-189108518.pdf?src-supplier=Master+Electronics; ComponentLink6URL: https://datasheet.octopart.com:443/CRG0805F30K-Tyco-Electronics-datasheet-11120141.pdf?src-supplier=TE+Connectivity; ComponentLink6Description: https://datasheet.octopart.com:443/CRG0805F30K-Tyco-Electronics-datasheet-11120141.pdf?src-supplier=TE+Connectivity; ComponentLink7URL: https://sigma.octopart.com:443/14528497/technical_drawing/TE-Connectivity-CRG0805F30K.pdf?src-supplier=Sager+Electronics; ComponentLink7Description: https://sigma.octopart.com:443/14528497/technical_drawing/TE-Connectivity-CRG0805F30K.pdf?src-supplier=Sager+Electronics; ComponentLink8URL: https://datasheet.octopart.com:443/CRG0805F30K-TE-Connectivity-datasheet-137111068.pdf?src-supplier=X-ON; ComponentLink8Description: https://datasheet.octopart.com:443/CRG0805F30K-TE-Connectivity-datasheet-137111068.pdf?src-supplier=X-ON; ComponentLink9URL: http://sigma.octopart.com:80/14528496/rohs_certificate/TE-Connectivity-CRG0805F30K.pdf?src-supplier=Compliance+Statements; ComponentLink9Description: http://sigma.octopart.com:80/14528496/rohs_certificate/TE-Connectivity-CRG0805F30K.pdf?src-supplier=Compliance+Statements
footprint FP-CRGCQ0805-IPC_A - duplicate
pins: 1, 2

## CRGCQ0805J10K
designator R?, comment 10k
Res Thick Film 0805 10K Ohm 5% 0.125W(1/8W) ±100ppm/C Pad SMD Automotive T/R; Manufacturer: TE Connectivity; Manufacturer Part Number: CRGCQ0805J10K; Manufacturer Lifecycle Status: ACTIVE; Operating Supply Voltage: 150V; Power Dissipation: 125mW; Value: 10kΩ; Temperature Coefficient: 100ppm/°C; Supplier: DigiKey; Supplier Part Number: A130140CT-ND; RoHS: Compliant; Category: Chip SMD Resistors; Stock: 448725; Pricing: 1=0.1, 10=0.031, 25=0.0232, 50=0.0188, 100=0.0153, 250=0.01204, 500=0.01016, 1000=0.00868 (USD); Ambient Temperature Range High: 70°C; China RoHS: Non-Compliant; Composition: Thick Film; Height: 550µm; Lifecycle Status: Production; Max Operating Temperature: 155°C; Min Operating Temperature: -55°C; Mounting Technology: Surface Mount; Number of Terminals: 2; Packaging: Cut Tape; Power Rating: 125mW; REACH SVHC: Yes; Schedule B: 8533210025, 8533210025|8533210025|8533210025|8533210025|8533210025, 8533210045; Tolerance: 5%; Voltage Rating: 150V; Voltage Rating (DC): 150V; Width: 1.25mm; Working Voltage: 150V; ComponentLink1URL: https://datasheet.octopart.com:443/CRGCQ0805J10K-TE-Connectivity-datasheet-114679081.pdf?src-supplier=Master+Electronics; ComponentLink1Description: https://datasheet.octopart.com:443/CRGCQ0805J10K-TE-Connectivity-datasheet-114679081.pdf?src-supplier=Master+Electronics; ComponentLink2URL: https://datasheet.octopart.com:443/2-2176342-5-TE-Connectivity---AMP-datasheet-189108688.pdf?src-supplier=Master+Electronics; ComponentLink2Description: https://datasheet.octopart.com:443/2-2176342-5-TE-Connectivity---AMP-datasheet-189108688.pdf?src-supplier=Master+Electronics; ComponentLink3URL: https://datasheet.octopart.com:443/CRGCQ0805J10K-TE-Connectivity-datasheet-179161841.pdf?src-supplier=IHS; ComponentLink3Description: https://datasheet.octopart.com:443/CRGCQ0805J10K-TE-Connectivity-datasheet-179161841.pdf?src-supplier=IHS; ComponentLink4URL: https://sigma.octopart.com:443/114702769/technical_drawing/TE-Connectivity-CRGCQ0805J10K.pdf?src-supplier=Sager+Electronics; ComponentLink4Description: https://sigma.octopart.com:443/114702769/technical_drawing/TE-Connectivity-CRGCQ0805J10K.pdf?src-supplier=Sager+Electronics
footprint FP-CRGCQ0805-IPC_A
pins: 1, 2

## EEU-FR1V101B
designator C?, comment 100uF
FR ALUMINUM ELECTROLYTIC CAPACITOR Radial Can aluminum electrolytic capacitor 0.315Dia 8.00mm ±20% 100muF 35V; Manufacturer: Panasonic; Manufacturer Part Number: EEU-FR1V101B; Value: 100µF; Lead Diameter: 600µm; Life (Hours): 6000hours; Ripple Current: 950mA; Supplier: DigiKey; Supplier Part Number: P124226CT-ND; RoHS: Compliant; Category: Aluminum Electrolytic Capacitors; Stock: 15444; Pricing: 1=0.61, 10=0.383, 50=0.2852, 100=0.2542, 500=0.20076 (USD); Case/Package: Radial; Contact Plating: Tin; Diameter: 8mm; Lead Pitch: 5mm; Max Operating Temperature: 105°C; Min Operating Temperature: -40°C; Mounting Technology: Through Hole; Schedule B: 8532220020, 8532220020|8532220020, 8532220020|8532220020|8532220020, 8532220020|8532220020|8532220020|8532220020; Termination: Radial; Tolerance: 20%; ComponentLink1URL: https://datasheet.octopart.com:443/EEU-FR1V101B-Panasonic-datasheet-62330550.pdf?src-supplier=Electro+Sonic; ComponentLink1Description: https://datasheet.octopart.com:443/EEU-FR1V101B-Panasonic-datasheet-62330550.pdf?src-supplier=Electro+Sonic
footprint CAPPRD350W60D800H1150
pins: 1, 2

## ERA6AEB164V
designator *
Res Thin Film 0805 160K Ohm 0.1% 0.125W ±25ppm/°C Molded SMD Punched Carrier T/R; Manufacturer: Panasonic; Manufacturer Part Number: ERA6AEB164V; Manufacturer Lifecycle Status: ACTIVE; Part Series: Thin Film Chip Resistors, High Reliability Type; Max Power Dissipation: 125mW; Value: 160kΩ; Voltage Rating: 100V; Supplier: Mouser; Supplier Part Number: 667-ERA-6AEB164V; RoHS: Compliant; Category: Chip SMD Resistors; Stock: 9105; Pricing: 1=0.1, 10=0.054, 50=0.054, 100=0.051, 1000=0.042, 10000=0.035 (USD); Case/Package: 0805; Case Code (Imperial): 0805; China RoHS: Non-Compliant; Composition: Thin Film; Contact Plating: Tin; Depth: 1.25mm; Features: Automotive AEC-Q200; Height: 500µm; Lead Free: Lead Free; Length: 2mm; Lifecycle Status: Production; Max Operating Temperature: 155°C; Military Standard: Not; Min Operating Temperature: -55°C; Mounting Technology: Surface Mount; Pins: 2; Number of Terminals: 2; Number of Terminations: 2; Packaging: Cut Tape; Power Dissipation: 125mW; Power Rating: 125mW; Radiation Hardening: No; REACH SVHC: Yes; Schedule B: 8533210045, 8533210045|8533210045|8533210045|8533210045|8533210045; Temperature Coefficient: 25ppm/°C; Termination: SMD/SMT; Tolerance: 0.1%; Voltage Rating (DC): 100V; Weight: 5.499807mg; Width: 1.25mm; Working Voltage: 100V; ComponentLink1URL: https://datasheet.octopart.com:443/ERA6AEB164V-Panasonic-datasheet-181959660.pdf?src-supplier=IHS; ComponentLink1Description: https://datasheet.octopart.com:443/ERA6AEB164V-Panasonic-datasheet-181959660.pdf?src-supplier=IHS; ComponentLink2URL: https://datasheet.octopart.com/ERA6AEB164V-Panasonic-datasheet-62287448.pdf; ComponentLink2Description: https://datasheet.octopart.com/ERA6AEB164V-Panasonic-datasheet-62287448.pdf; ComponentLink3URL: https://datasheet.octopart.com/ERA6AEB164V-Panasonic-datasheet-78375410.pdf; ComponentLink3Description: https://datasheet.octopart.com/ERA6AEB164V-Panasonic-datasheet-78375410.pdf; ComponentLink4URL: https://datasheet.octopart.com:443/ERA6AEB164V-Panasonic-datasheet-136531316.pdf?src-supplier=Newark; ComponentLink4Description: https://datasheet.octopart.com:443/ERA6AEB164V-Panasonic-datasheet-136531316.pdf?src-supplier=Newark; ComponentLink5URL: https://datasheet.octopart.com:443/ERA6AEB164V-Panasonic-datasheet-8367715.pdf?src-supplier=Newark; ComponentLink5Description: https://datasheet.octopart.com:443/ERA6AEB164V-Panasonic-datasheet-8367715.pdf?src-supplier=Newark; ComponentLink6URL: https://datasheet.octopart.com:443/ERA-6AEB164V-Panasonic-datasheet-154766165.pdf?src-supplier=JRH+Electronics; ComponentLink6Description: https://datasheet.octopart.com:443/ERA-6AEB164V-Panasonic-datasheet-154766165.pdf?src-supplier=JRH+Electronics; ComponentLink7URL: https://datasheet.octopart.com:443/ERA-6AEB164V-Panasonic-datasheet-118567.pdf?src-supplier=element14; ComponentLink7Description: https://datasheet.octopart.com:443/ERA-6AEB164V-Panasonic-datasheet-118567.pdf?src-supplier=element14; ComponentLink8URL: https://datasheet.octopart.com:443/ERA6AEB164V-Panasonic-datasheet-61114971.pdf?src-supplier=element14+APAC; ComponentLink8Description: https://datasheet.octopart.com:443/ERA6AEB164V-Panasonic-datasheet-61114971.pdf?src-supplier=element14+APAC; ComponentLink9URL: https://datasheet.octopart.com:443/ERA6AEB164V-Panasonic-datasheet-188913046.pdf?src-supplier=TME; ComponentLink9Description: https://datasheet.octopart.com:443/ERA6AEB164V-Panasonic-datasheet-188913046.pdf?src-supplier=TME; ComponentLink10URL: https://sigma.octopart.com:443/150570796/technical_drawing/Panasonic-ERA6AEB164V.pdf?src-supplier=Panasonic+SCT; ComponentLink10Description: https://sigma.octopart.com:443/150570796/technical_drawing/Panasonic-ERA6AEB164V.pdf?src-supplier=Panasonic+SCT; ComponentLink11URL: https://datasheet.octopart.com:443/ERA6AEB164V-Panasonic-datasheet-138783076.pdf?src-supplier=Burklin+Elektronik; ComponentLink11Description: https://datasheet.octopart.com:443/ERA6AEB164V-Panasonic-datasheet-138783076.pdf?src-supplier=Burklin+Elektronik; ComponentLink12URL: https://datasheet.octopart.com:443/ERA6AEB164V-Panasonic---ECG-datasheet-15994758.pdf?src-supplier=Farnell; ComponentLink12Description: https://datasheet.octopart.com:443/ERA6AEB164V-Panasonic---ECG-datasheet-15994758.pdf?src-supplier=Farnell; ComponentLink13URL: https://datasheet.octopart.com:443/ERA-6AEB164V-Panasonic-datasheet-13266200.pdf?src-supplier=Electro+Sonic; ComponentLink13Description: https://datasheet.octopart.com:443/ERA-6AEB164V-Panasonic-datasheet-13266200.pdf?src-supplier=Electro+Sonic; ComponentLink14URL: https://datasheet.octopart.com:443/ERA-6AEB164V-Panasonic-datasheet-33006989.pdf?src-supplier=Electro+Sonic; ComponentLink14Description: https://datasheet.octopart.com:443/ERA-6AEB164V-Panasonic-datasheet-33006989.pdf?src-supplier=Electro+Sonic; ComponentLink15URL: https://datasheet.octopart.com:443/ERA-6AEB164V-Panasonic-datasheet-46744048.pdf?src-supplier=Electro+Sonic; ComponentLink15Description: https://datasheet.octopart.com:443/ERA-6AEB164V-Panasonic-datasheet-46744048.pdf?src-supplier=Electro+Sonic
footprint RESC2013X60X40LL20T25 (Chip Resistor, 2-Leads, Body 2.00x1.25mm, IPC High Density)
pins: 1, 2